# Altium schematic symbol library HDR-2.54-10P.A1.SchLib: 1 symbol
Pins are listed as number, name and electrical type; pins without a type are passive.

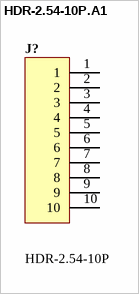
[diagram p0: symbol HDR-2.54-10P.A1]

## HDR-2.54-10P.A1
designator J?, comment HDR-2.54-10P
Connector;Header;Female;Pitch 2.54mm;10x1 Position
pins: 1, 2, 3, 4, 5, 6, 7, 8, 9, 10